# Altium schematic symbol library kmilo17pet-TI_BattMgmt.SchLib: 950 symbols (part 7 of 60)
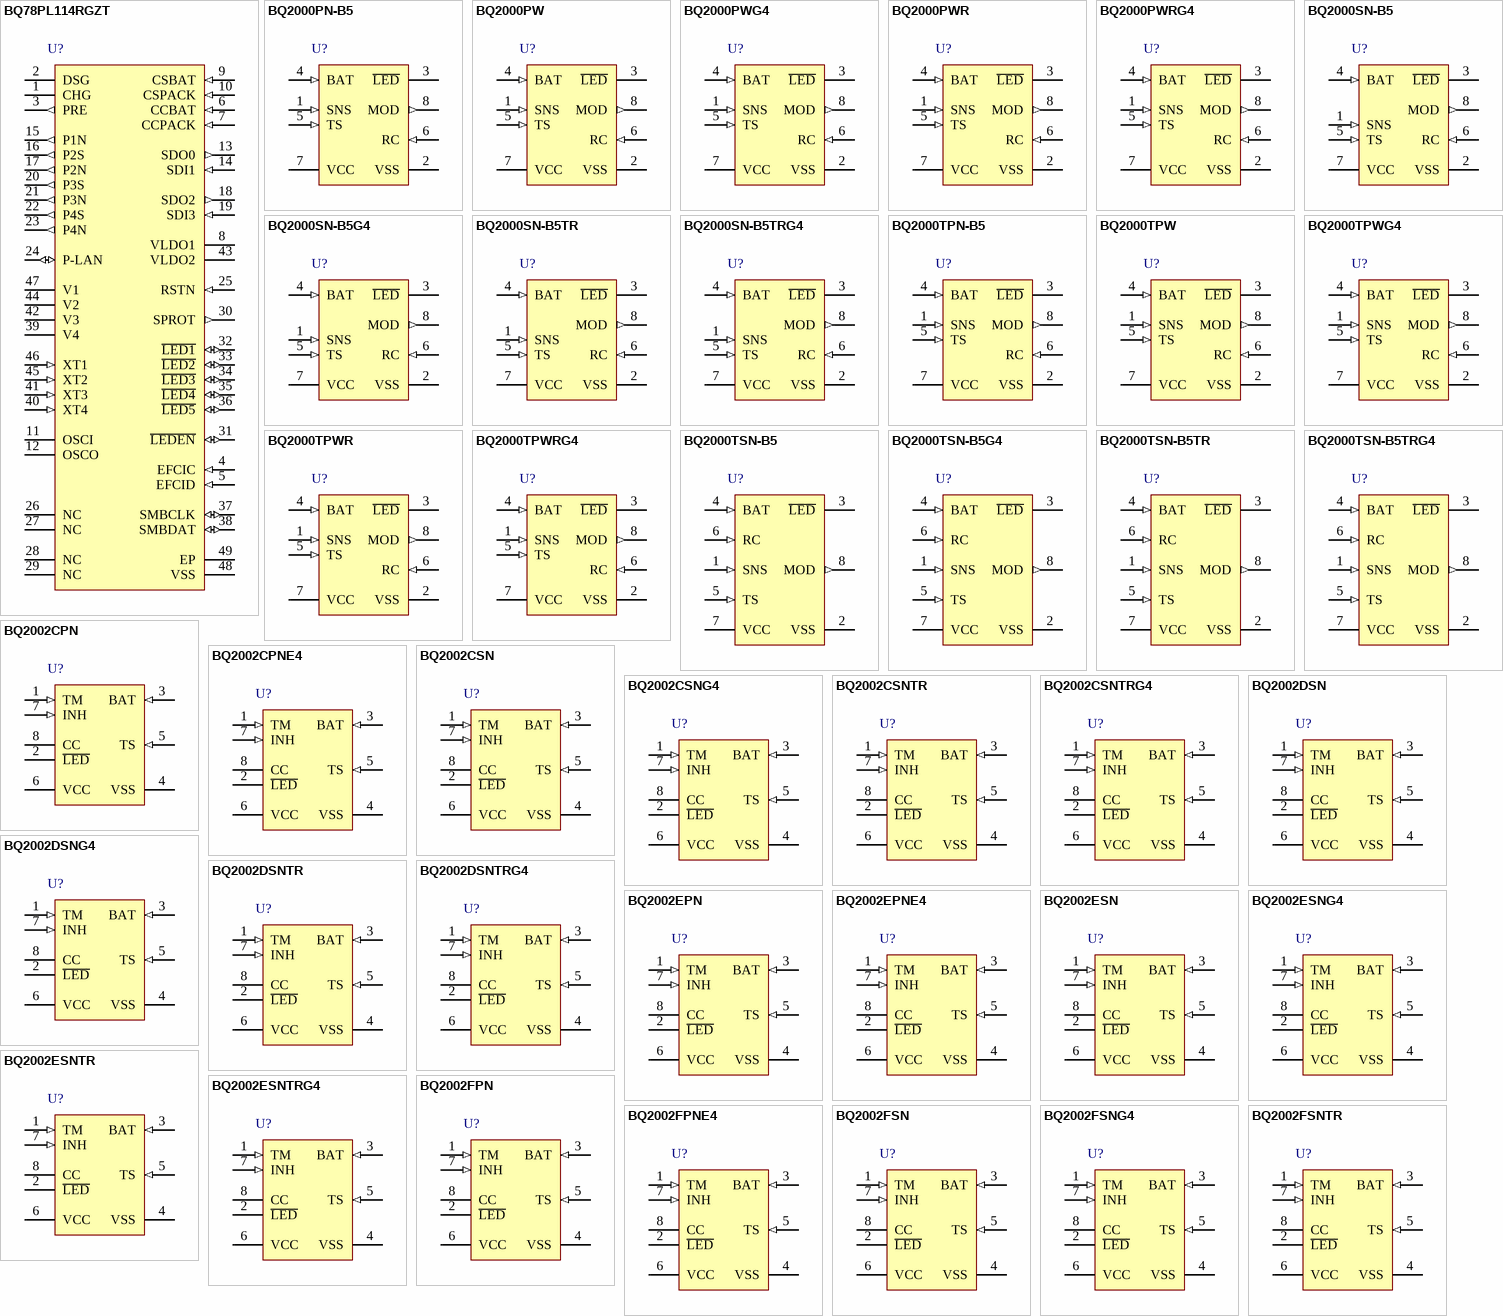
[diagram p40: symbols BQ78PL114RGZT to BQ2002FSNTR]

## BQ2002ESNG4
designator U?
NiCd / NiMH Charge Controller with Negative dV and Peak Voltage Detection Termination, 4 V, 0 to 70 degC, 8-pin SOIC (D), Green (RoHS & no Sb/Br); PartNumber: BQ2002ESNG4; Manufacturer: Texas Instruments; Lead Acid: N; NiCd: Y; SubFamily: Battery Charge Management; Vin(Min)(V): 4; DatasheetVersion: SLUS132; PackageVersion: revM, Jun-2011; PackageReference: D8; PackageDescription: 8-Pin Plastic Small Outline Integrated Circuit, 4.9 x 3.9 mm, Pitch 1.27 mm Pitch; Supplier 1: Digi-Key; Supplier Part Number 1: BQ2002ESNG4-ND; Supplier Part Number 3: 595-BQ2002ESNG4; Eco-Plan: Green (RoHS & no Sb/Br); Li-Ion: N; Li-Polymer: N; NiMH: Y; Over Voltage Protection: N; Mounting Technology: Surface Mount; Code_JEDEC: MS-012AA; ComponentLink1Description: Datasheet; ComponentLink1URL: http://www.ti.com/general/docs/lit/getliterature.tsp?genericPartNumber=BQ2002E&fileType=pdf
footprint D8_N (SOIC, 8-Leads, Body 4.9x3.9mm, Pitch 1.27mm, IPC Medium Density)
footprint D8_L (SOIC, 8-Leads, Body 4.9x3.9mm, Pitch 1.27mm, IPC High Density)
footprint D8_M (SOIC, 8-Leads, Body 4.9x3.9mm, Pitch 1.27mm, IPC Low Density)
pins: 1 TM (in) "Timer mode input. A three-level input that controls the settings for the fast charge safety timer, voltage termination mode, top-off, pulse-trickle, and voltage hold-off time.", 2 ~{LED} (hiz) "Charging output status. Open-drain output that indicates the charging status.", 3 BAT (in) "Battery input voltage. The battery voltage sense input. The input to this pin is created by a high-impedance resistor divider network connected between the positive and negative terminals of the battery.", 4 VSS (power) "System ground.", 5 TS (in) "Temperature sense input. Input for an external battery temperature monitoring thermistor.", 6 VCC (power) "Supply voltage input. 5.0V +/- 20%power input.", 7 INH (in) "Charge inhibit input. When high, INH suspends the fast charge in progress. When returned low, the IC resumes operation at the point where initially suspended.", 8 CC (hiz) "Charge control output. An open-drain output used to control the charging current to the battery. CC switching to high impedance (Z) enables charging current to flow, and low to inhibit charging current. CC is modulated to (See Datasheet)"

## BQ2002ESNTR
designator U?
NiCd / NiMH Charge Controller with Negative dV and Peak Voltage Detection Termination, 4 V, 0 to 70 degC, 8-pin SOIC (D), Green (RoHS & no Sb/Br); PartNumber: BQ2002ESNTR; Manufacturer: Texas Instruments; Lead Acid: N; NiCd: Y; SubFamily: Battery Charge Management; Vin(Min)(V): 4; DatasheetVersion: SLUS132; PackageVersion: revM, Jun-2011; PackageReference: D8; PackageDescription: 8-Pin Plastic Small Outline Integrated Circuit, 4.9 x 3.9 mm, Pitch 1.27 mm Pitch; Supplier 1: Digi-Key; Supplier Part Number 1: BQ2002ESNTR-ND; Supplier Part Number 3: 595-BQ2002ESNTR; Eco-Plan: Green (RoHS & no Sb/Br); Li-Ion: N; Li-Polymer: N; NiMH: Y; Over Voltage Protection: N; Mounting Technology: Surface Mount; Code_JEDEC: MS-012AA; ComponentLink1Description: Datasheet; ComponentLink1URL: http://www.ti.com/general/docs/lit/getliterature.tsp?genericPartNumber=BQ2002E&fileType=pdf
footprint D8_N (SOIC, 8-Leads, Body 4.9x3.9mm, Pitch 1.27mm, IPC Medium Density)
footprint D8_L (SOIC, 8-Leads, Body 4.9x3.9mm, Pitch 1.27mm, IPC High Density)
footprint D8_M (SOIC, 8-Leads, Body 4.9x3.9mm, Pitch 1.27mm, IPC Low Density)
pins: 1 TM (in) "Timer mode input. A three-level input that controls the settings for the fast charge safety timer, voltage termination mode, top-off, pulse-trickle, and voltage hold-off time.", 2 ~{LED} (hiz) "Charging output status. Open-drain output that indicates the charging status.", 3 BAT (in) "Battery input voltage. The battery voltage sense input. The input to this pin is created by a high-impedance resistor divider network connected between the positive and negative terminals of the battery.", 4 VSS (power) "System ground.", 5 TS (in) "Temperature sense input. Input for an external battery temperature monitoring thermistor.", 6 VCC (power) "Supply voltage input. 5.0V +/- 20%power input.", 7 INH (in) "Charge inhibit input. When high, INH suspends the fast charge in progress. When returned low, the IC resumes operation at the point where initially suspended.", 8 CC (hiz) "Charge control output. An open-drain output used to control the charging current to the battery. CC switching to high impedance (Z) enables charging current to flow, and low to inhibit charging current. CC is modulated to (See Datasheet)"

## BQ2002ESNTRG4
designator U?
NiCd / NiMH Charge Controller with Negative dV and Peak Voltage Detection Termination, 4 V, 0 to 70 degC, 8-pin SOIC (D), Green (RoHS & no Sb/Br); PartNumber: BQ2002ESNTRG4; Manufacturer: Texas Instruments; Lead Acid: N; NiCd: Y; SubFamily: Battery Charge Management; Vin(Min)(V): 4; DatasheetVersion: SLUS132; PackageVersion: revM, Jun-2011; PackageReference: D8; PackageDescription: 8-Pin Plastic Small Outline Integrated Circuit, 4.9 x 3.9 mm, Pitch 1.27 mm Pitch; Supplier 1: Digi-Key; Supplier Part Number 1: BQ2002ESNTRG4-ND; Supplier Part Number 3: 595-BQ2002ESNTRG4; Eco-Plan: Green (RoHS & no Sb/Br); Li-Ion: N; Li-Polymer: N; NiMH: Y; Over Voltage Protection: N; Mounting Technology: Surface Mount; Code_JEDEC: MS-012AA; ComponentLink1Description: Datasheet; ComponentLink1URL: http://www.ti.com/general/docs/lit/getliterature.tsp?genericPartNumber=BQ2002E&fileType=pdf
footprint D8_N (SOIC, 8-Leads, Body 4.9x3.9mm, Pitch 1.27mm, IPC Medium Density)
footprint D8_L (SOIC, 8-Leads, Body 4.9x3.9mm, Pitch 1.27mm, IPC High Density)
footprint D8_M (SOIC, 8-Leads, Body 4.9x3.9mm, Pitch 1.27mm, IPC Low Density)
pins: 1 TM (in) "Timer mode input. A three-level input that controls the settings for the fast charge safety timer, voltage termination mode, top-off, pulse-trickle, and voltage hold-off time.", 2 ~{LED} (hiz) "Charging output status. Open-drain output that indicates the charging status.", 3 BAT (in) "Battery input voltage. The battery voltage sense input. The input to this pin is created by a high-impedance resistor divider network connected between the positive and negative terminals of the battery.", 4 VSS (power) "System ground.", 5 TS (in) "Temperature sense input. Input for an external battery temperature monitoring thermistor.", 6 VCC (power) "Supply voltage input. 5.0V +/- 20%power input.", 7 INH (in) "Charge inhibit input. When high, INH suspends the fast charge in progress. When returned low, the IC resumes operation at the point where initially suspended.", 8 CC (hiz) "Charge control output. An open-drain output used to control the charging current to the battery. CC switching to high impedance (Z) enables charging current to flow, and low to inhibit charging current. CC is modulated to (See Datasheet)"

## BQ2002FPN
designator U?
NiCd / NiMH Charge Controller with Negative dV and Peak Voltage Detection Termination, 4 V, 0 to 70 degC, 8-pin PDIP (P), Pb-Free (RoHS); PartNumber: BQ2002FPN; Manufacturer: Texas Instruments; Lead Acid: N; NiCd: Y; SubFamily: Battery Charge Management; Vin(Min)(V): 4; DatasheetVersion: SLUS131; PackageVersion: revE, Apr-2010; PackageReference: P8; PackageDescription: 8-Pin Plastic Dual-In-Line Package, Row Spacing 7.62 mm, Pitch 2.54 mm; Supplier 1: Digi-Key; Supplier Part Number 1: 296-9322-5-ND; Supplier Part Number 3: 595-BQ2002FPN; Eco-Plan: Pb-Free (RoHS); Li-Ion: N; Li-Polymer: N; NiMH: Y; Over Voltage Protection: N; Mounting Technology: Through Hole; Code_JEDEC: MS-001-BA; ComponentLink1Description: Datasheet; ComponentLink1URL: http://www.ti.com/general/docs/lit/getliterature.tsp?genericPartNumber=BQ2002F&fileType=pdf
footprint P8 (DIP, 8-Leads, Row Spacing 7.62mm, Pitch 2.54mm, Body 9.6x6.4mm)
pins: 1 TM (in) "Timer mode input. A three-level input that controls the settings for the fast charge safety timer, voltage termination mode, top-off, pulse-trickle, and voltage hold-off time.", 2 ~{LED} (hiz) "Charging output status. Open-drain output that indicates the charging status.", 3 BAT (in) "Battery input voltage. The battery voltage sense input. The input to this pin is created by a high-impedance resistor divider network connected between the positive and negative terminals of the battery.", 4 VSS (power) "System ground.", 5 TS (in) "Temperature sense input. Input for an external battery temperature monitoring thermistor.", 6 VCC (power) "Supply voltage input. 5.0V +/-20%power input.", 7 INH (in) "Charge inhibit input. When high, INH suspends the fast charge in progress. When returned low, the IC resumes operation at the point where initially suspended.", 8 CC (hiz) "Charge control output. An open-drain output used to control the charging current to the battery. CC switching to high impedance (Z) enables charging current to flow, and low to inhibit charging current. CC is modulated to (See Datasheet)"

## BQ2002FPNE4
designator U?
NiCd / NiMH Charge Controller with Negative dV and Peak Voltage Detection Termination, 4 V, 0 to 70 degC, 8-pin PDIP (P), Pb-Free (RoHS); PartNumber: BQ2002FPNE4; Manufacturer: Texas Instruments; Lead Acid: N; NiCd: Y; SubFamily: Battery Charge Management; Vin(Min)(V): 4; DatasheetVersion: SLUS131; PackageVersion: revE, Apr-2010; PackageReference: P8; PackageDescription: 8-Pin Plastic Dual-In-Line Package, Row Spacing 7.62 mm, Pitch 2.54 mm; Supplier 1: Digi-Key; Supplier Part Number 1: BQ2002FPNE4-ND; Supplier Part Number 3: 595-BQ2002FPNE4; Eco-Plan: Pb-Free (RoHS); Li-Ion: N; Li-Polymer: N; NiMH: Y; Over Voltage Protection: N; Mounting Technology: Through Hole; Code_JEDEC: MS-001-BA; ComponentLink1Description: Datasheet; ComponentLink1URL: http://www.ti.com/general/docs/lit/getliterature.tsp?genericPartNumber=BQ2002F&fileType=pdf
footprint P8 (DIP, 8-Leads, Row Spacing 7.62mm, Pitch 2.54mm, Body 9.6x6.4mm)
pins: 1 TM (in) "Timer mode input. A three-level input that controls the settings for the fast charge safety timer, voltage termination mode, top-off, pulse-trickle, and voltage hold-off time.", 2 ~{LED} (hiz) "Charging output status. Open-drain output that indicates the charging status.", 3 BAT (in) "Battery input voltage. The battery voltage sense input. The input to this pin is created by a high-impedance resistor divider network connected between the positive and negative terminals of the battery.", 4 VSS (power) "System ground.", 5 TS (in) "Temperature sense input. Input for an external battery temperature monitoring thermistor.", 6 VCC (power) "Supply voltage input. 5.0V +/-20%power input.", 7 INH (in) "Charge inhibit input. When high, INH suspends the fast charge in progress. When returned low, the IC resumes operation at the point where initially suspended.", 8 CC (hiz) "Charge control output. An open-drain output used to control the charging current to the battery. CC switching to high impedance (Z) enables charging current to flow, and low to inhibit charging current. CC is modulated to (See Datasheet)"

## BQ2002FSN
designator U?
NiCd / NiMH Charge Controller with Negative dV and Peak Voltage Detection Termination, 4 V, 0 to 70 degC, 8-pin SOIC (D), Green (RoHS & no Sb/Br); PartNumber: BQ2002FSN; Manufacturer: Texas Instruments; Lead Acid: N; NiCd: Y; SubFamily: Battery Charge Management; Vin(Min)(V): 4; DatasheetVersion: SLUS131; PackageVersion: revM, Jun-2011; PackageReference: D8; PackageDescription: 8-Pin Plastic Small Outline Integrated Circuit, 4.9 x 3.9 mm, Pitch 1.27 mm Pitch; Supplier 1: Digi-Key; Supplier Part Number 1: 296-9323-5-ND; Supplier Part Number 3: 74C7519; Eco-Plan: Green (RoHS & no Sb/Br); Li-Ion: N; Li-Polymer: N; NiMH: Y; Over Voltage Protection: N; Mounting Technology: Surface Mount; Code_JEDEC: MS-012AA; ComponentLink1Description: Datasheet; ComponentLink1URL: http://www.ti.com/general/docs/lit/getliterature.tsp?genericPartNumber=BQ2002F&fileType=pdf
footprint D8_N (SOIC, 8-Leads, Body 4.9x3.9mm, Pitch 1.27mm, IPC Medium Density)
footprint D8_L (SOIC, 8-Leads, Body 4.9x3.9mm, Pitch 1.27mm, IPC High Density)
footprint D8_M (SOIC, 8-Leads, Body 4.9x3.9mm, Pitch 1.27mm, IPC Low Density)
pins: 1 TM (in) "Timer mode input. A three-level input that controls the settings for the fast charge safety timer, voltage termination mode, top-off, pulse-trickle, and voltage hold-off time.", 2 ~{LED} (hiz) "Charging output status. Open-drain output that indicates the charging status.", 3 BAT (in) "Battery input voltage. The battery voltage sense input. The input to this pin is created by a high-impedance resistor divider network connected between the positive and negative terminals of the battery.", 4 VSS (power) "System ground.", 5 TS (in) "Temperature sense input. Input for an external battery temperature monitoring thermistor.", 6 VCC (power) "Supply voltage input. 5.0V +/- 20%power input.", 7 INH (in) "Charge inhibit input. When high, INH suspends the fast charge in progress. When returned low, the IC resumes operation at the point where initially suspended.", 8 CC (hiz) "Charge control output. An open-drain output used to control the charging current to the battery. CC switching to high impedance (Z) enables charging current to flow, and low to inhibit charging current. CC is modulated to (See Datasheet)"

## BQ2002FSNG4
designator U?
NiCd / NiMH Charge Controller with Negative dV and Peak Voltage Detection Termination, 4 V, 0 to 70 degC, 8-pin SOIC (D), Green (RoHS & no Sb/Br); PartNumber: BQ2002FSNG4; Manufacturer: Texas Instruments; Lead Acid: N; NiCd: Y; SubFamily: Battery Charge Management; Vin(Min)(V): 4; DatasheetVersion: SLUS131; PackageVersion: revM, Jun-2011; PackageReference: D8; PackageDescription: 8-Pin Plastic Small Outline Integrated Circuit, 4.9 x 3.9 mm, Pitch 1.27 mm Pitch; Supplier 1: Digi-Key; Supplier Part Number 1: BQ2002FSNG4-ND; Supplier Part Number 3: 595-BQ2002FSNG4; Eco-Plan: Green (RoHS & no Sb/Br); Li-Ion: N; Li-Polymer: N; NiMH: Y; Over Voltage Protection: N; Mounting Technology: Surface Mount; Code_JEDEC: MS-012AA; ComponentLink1Description: Datasheet; ComponentLink1URL: http://www.ti.com/general/docs/lit/getliterature.tsp?genericPartNumber=BQ2002F&fileType=pdf
footprint D8_N (SOIC, 8-Leads, Body 4.9x3.9mm, Pitch 1.27mm, IPC Medium Density)
footprint D8_L (SOIC, 8-Leads, Body 4.9x3.9mm, Pitch 1.27mm, IPC High Density)
footprint D8_M (SOIC, 8-Leads, Body 4.9x3.9mm, Pitch 1.27mm, IPC Low Density)
pins: 1 TM (in) "Timer mode input. A three-level input that controls the settings for the fast charge safety timer, voltage termination mode, top-off, pulse-trickle, and voltage hold-off time.", 2 ~{LED} (hiz) "Charging output status. Open-drain output that indicates the charging status.", 3 BAT (in) "Battery input voltage. The battery voltage sense input. The input to this pin is created by a high-impedance resistor divider network connected between the positive and negative terminals of the battery.", 4 VSS (power) "System ground.", 5 TS (in) "Temperature sense input. Input for an external battery temperature monitoring thermistor.", 6 VCC (power) "Supply voltage input. 5.0V +/- 20%power input.", 7 INH (in) "Charge inhibit input. When high, INH suspends the fast charge in progress. When returned low, the IC resumes operation at the point where initially suspended.", 8 CC (hiz) "Charge control output. An open-drain output used to control the charging current to the battery. CC switching to high impedance (Z) enables charging current to flow, and low to inhibit charging current. CC is modulated to (See Datasheet)"

## BQ2002FSNTR
designator U?
NiCd / NiMH Charge Controller with Negative dV and Peak Voltage Detection Termination, 4 V, 0 to 70 degC, 8-pin SOIC (D), Green (RoHS & no Sb/Br); PartNumber: BQ2002FSNTR; Manufacturer: Texas Instruments; Lead Acid: N; NiCd: Y; SubFamily: Battery Charge Management; Vin(Min)(V): 4; DatasheetVersion: SLUS131; PackageVersion: revM, Jun-2011; PackageReference: D8; PackageDescription: 8-Pin Plastic Small Outline Integrated Circuit, 4.9 x 3.9 mm, Pitch 1.27 mm Pitch; Supplier 1: Digi-Key; Supplier Part Number 1: BQ2002FSNTR-ND; Supplier Part Number 3: 595-BQ2002FSNTR; Eco-Plan: Green (RoHS & no Sb/Br); Li-Ion: N; Li-Polymer: N; NiMH: Y; Over Voltage Protection: N; Mounting Technology: Surface Mount; Code_JEDEC: MS-012AA; ComponentLink1Description: Datasheet; ComponentLink1URL: http://www.ti.com/general/docs/lit/getliterature.tsp?genericPartNumber=BQ2002F&fileType=pdf
footprint D8_N (SOIC, 8-Leads, Body 4.9x3.9mm, Pitch 1.27mm, IPC Medium Density)
footprint D8_L (SOIC, 8-Leads, Body 4.9x3.9mm, Pitch 1.27mm, IPC High Density)
footprint D8_M (SOIC, 8-Leads, Body 4.9x3.9mm, Pitch 1.27mm, IPC Low Density)
pins: 1 TM (in) "Timer mode input. A three-level input that controls the settings for the fast charge safety timer, voltage termination mode, top-off, pulse-trickle, and voltage hold-off time.", 2 ~{LED} (hiz) "Charging output status. Open-drain output that indicates the charging status.", 3 BAT (in) "Battery input voltage. The battery voltage sense input. The input to this pin is created by a high-impedance resistor divider network connected between the positive and negative terminals of the battery.", 4 VSS (power) "System ground.", 5 TS (in) "Temperature sense input. Input for an external battery temperature monitoring thermistor.", 6 VCC (power) "Supply voltage input. 5.0V +/- 20%power input.", 7 INH (in) "Charge inhibit input. When high, INH suspends the fast charge in progress. When returned low, the IC resumes operation at the point where initially suspended.", 8 CC (hiz) "Charge control output. An open-drain output used to control the charging current to the battery. CC switching to high impedance (Z) enables charging current to flow, and low to inhibit charging current. CC is modulated to (See Datasheet)"

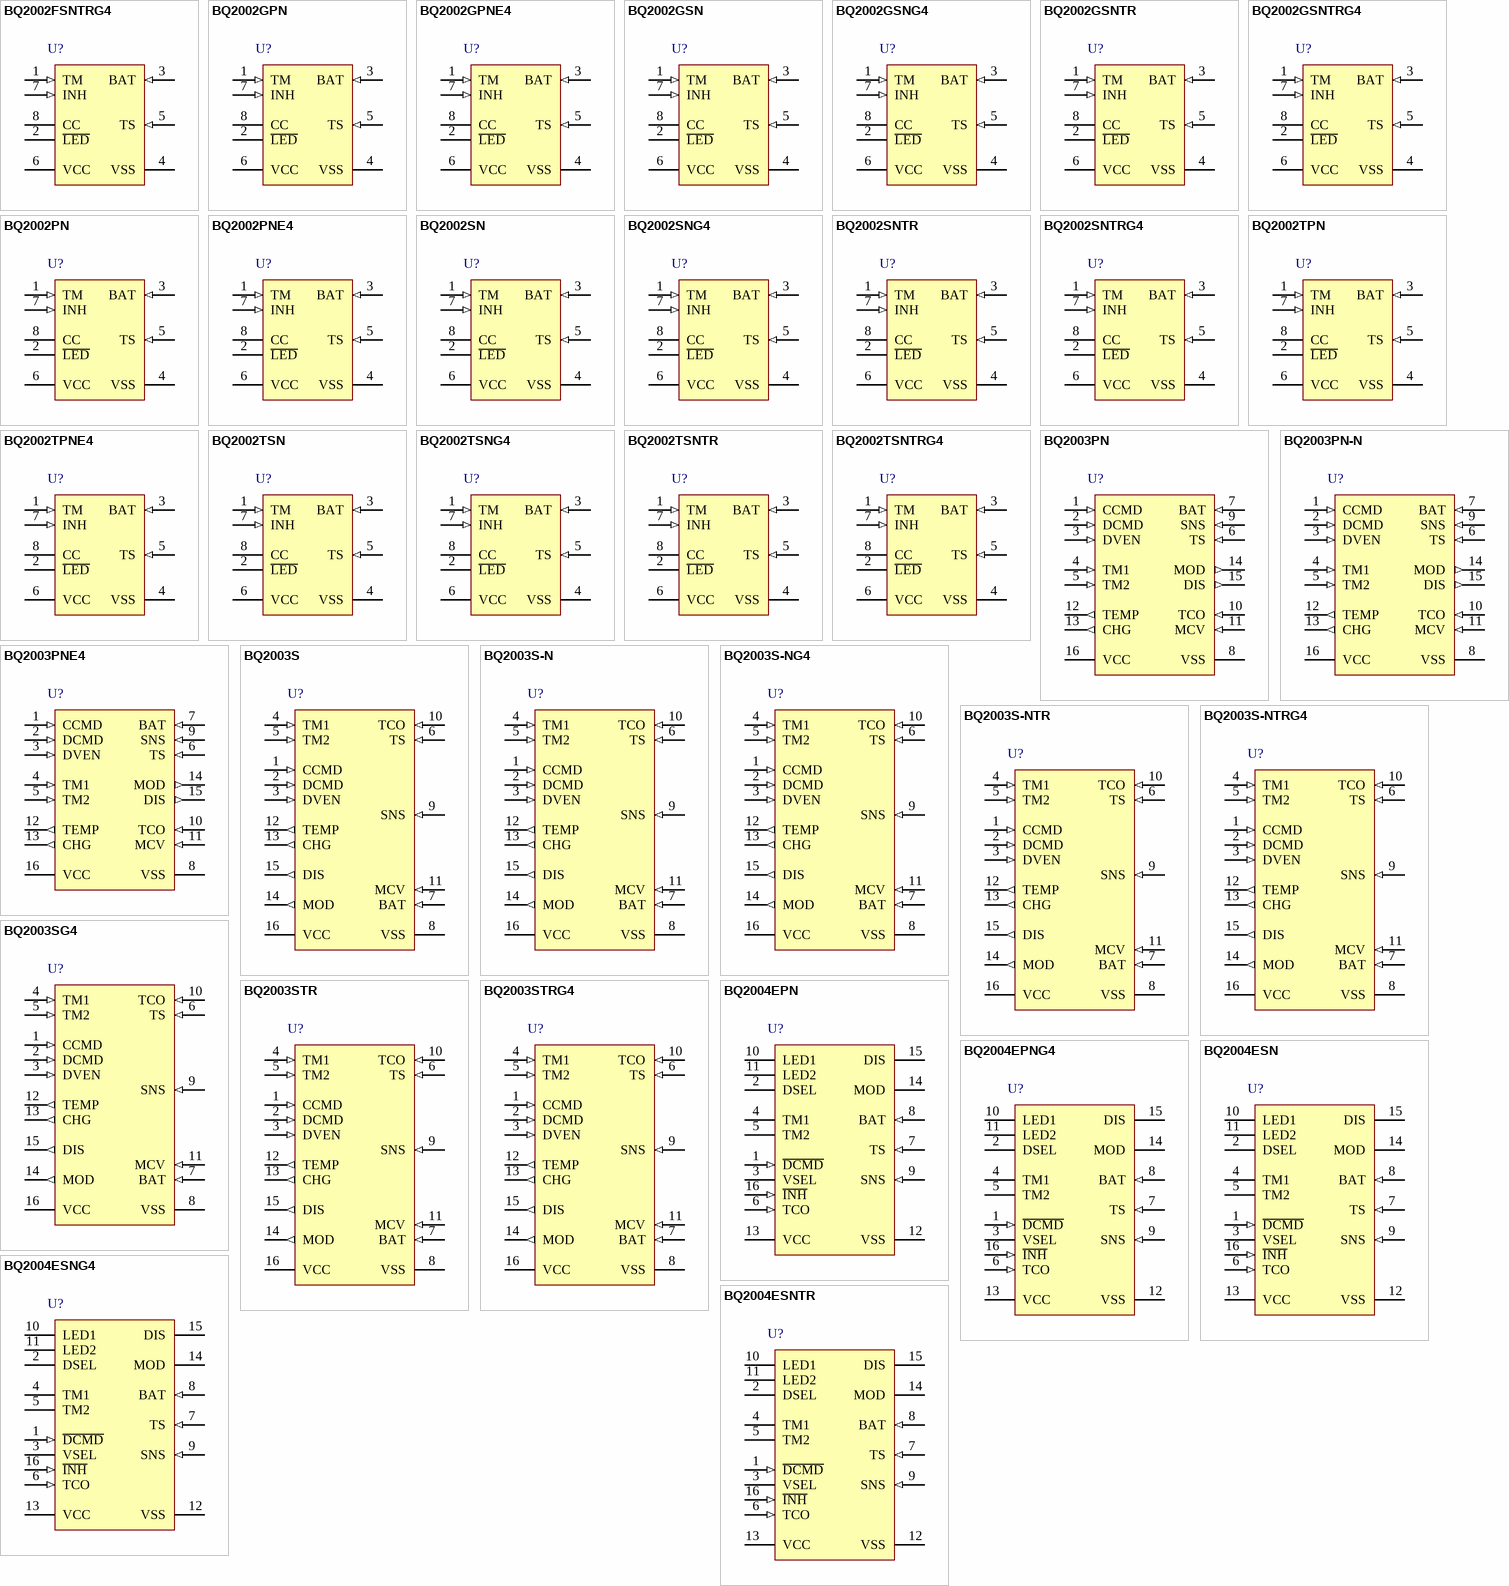
[diagram p4: symbols BQ2002FSNTRG4 to BQ2004ESNTR]

## BQ2002FSNTRG4
designator U?
NiCd / NiMH Charge Controller with Negative dV and Peak Voltage Detection Termination, 4 V, 0 to 70 degC, 8-pin SOIC (D), Green (RoHS & no Sb/Br); PartNumber: BQ2002FSNTRG4; Manufacturer: Texas Instruments; Lead Acid: N; NiCd: Y; SubFamily: Battery Charge Management; Vin(Min)(V): 4; DatasheetVersion: SLUS131; PackageVersion: revM, Jun-2011; PackageReference: D8; PackageDescription: 8-Pin Plastic Small Outline Integrated Circuit, 4.9 x 3.9 mm, Pitch 1.27 mm Pitch; Supplier 1: Digi-Key; Supplier Part Number 1: BQ2002FSNTRG4-ND; Supplier Part Number 3: 595-BQ2002FSNTRG4; Eco-Plan: Green (RoHS & no Sb/Br); Li-Ion: N; Li-Polymer: N; NiMH: Y; Over Voltage Protection: N; Mounting Technology: Surface Mount; Code_JEDEC: MS-012AA; ComponentLink1Description: Datasheet; ComponentLink1URL: http://www.ti.com/general/docs/lit/getliterature.tsp?genericPartNumber=BQ2002F&fileType=pdf
footprint D8_N (SOIC, 8-Leads, Body 4.9x3.9mm, Pitch 1.27mm, IPC Medium Density)
footprint D8_L (SOIC, 8-Leads, Body 4.9x3.9mm, Pitch 1.27mm, IPC High Density)
footprint D8_M (SOIC, 8-Leads, Body 4.9x3.9mm, Pitch 1.27mm, IPC Low Density)
pins: 1 TM (in) "Timer mode input. A three-level input that controls the settings for the fast charge safety timer, voltage termination mode, top-off, pulse-trickle, and voltage hold-off time.", 2 ~{LED} (hiz) "Charging output status. Open-drain output that indicates the charging status.", 3 BAT (in) "Battery input voltage. The battery voltage sense input. The input to this pin is created by a high-impedance resistor divider network connected between the positive and negative terminals of the battery.", 4 VSS (power) "System ground.", 5 TS (in) "Temperature sense input. Input for an external battery temperature monitoring thermistor.", 6 VCC (power) "Supply voltage input. 5.0V +/- 20%power input.", 7 INH (in) "Charge inhibit input. When high, INH suspends the fast charge in progress. When returned low, the IC resumes operation at the point where initially suspended.", 8 CC (hiz) "Charge control output. An open-drain output used to control the charging current to the battery. CC switching to high impedance (Z) enables charging current to flow, and low to inhibit charging current. CC is modulated to (See Datasheet)"

## BQ2002GPN
designator U?
NiCd / NiMH Charge Controller with Negative dV and Peak Voltage Detection Termination, 4 V, 0 to 70 degC, 8-pin PDIP (P), Pb-Free (RoHS); PartNumber: BQ2002GPN; Manufacturer: Texas Instruments; Lead Acid: N; NiCd: Y; SubFamily: Battery Charge Management; Vin(Min)(V): 4; DatasheetVersion: SLUS132; PackageVersion: revE, Apr-2010; PackageReference: P8; PackageDescription: 8-Pin Plastic Dual-In-Line Package, Row Spacing 7.62 mm, Pitch 2.54 mm; Supplier 1: Digi-Key; Supplier Part Number 1: 296-9324-5-ND; Supplier Part Number 3: 595-BQ2002GPN; Eco-Plan: Pb-Free (RoHS); Li-Ion: N; Li-Polymer: N; NiMH: Y; Over Voltage Protection: N; Mounting Technology: Through Hole; Code_JEDEC: MS-001-BA; ComponentLink1Description: Datasheet; ComponentLink1URL: http://www.ti.com/general/docs/lit/getliterature.tsp?genericPartNumber=BQ2002G&fileType=pdf
footprint P8 (DIP, 8-Leads, Row Spacing 7.62mm, Pitch 2.54mm, Body 9.6x6.4mm)
pins: 1 TM (in) "Timer mode input. A three-level input that controls the settings for the fast charge safety timer, voltage termination mode, top-off, pulse-trickle, and voltage hold-off time.", 2 ~{LED} (hiz) "Charging output status. Open-drain output that indicates the charging status.", 3 BAT (in) "Battery input voltage. The battery voltage sense input. The input to this pin is created by a high-impedance resistor divider network connected between the positive and negative terminals of the battery.", 4 VSS (power) "System ground.", 5 TS (in) "Temperature sense input. Input for an external battery temperature monitoring thermistor.", 6 VCC (power) "Supply voltage input. 5.0V +/-20%power input.", 7 INH (in) "Charge inhibit input. When high, INH suspends the fast charge in progress. When returned low, the IC resumes operation at the point where initially suspended.", 8 CC (hiz) "Charge control output. An open-drain output used to control the charging current to the battery. CC switching to high impedance (Z) enables charging current to flow, and low to inhibit charging current. CC is modulated to (See Datasheet)"

## BQ2002GPNE4
designator U?
NiCd / NiMH Charge Controller with Negative dV and Peak Voltage Detection Termination, 4 V, 0 to 70 degC, 8-pin PDIP (P), Pb-Free (RoHS); PartNumber: BQ2002GPNE4; Manufacturer: Texas Instruments; Lead Acid: N; NiCd: Y; SubFamily: Battery Charge Management; Vin(Min)(V): 4; DatasheetVersion: SLUS132; PackageVersion: revE, Apr-2010; PackageReference: P8; PackageDescription: 8-Pin Plastic Dual-In-Line Package, Row Spacing 7.62 mm, Pitch 2.54 mm; Supplier 1: Digi-Key; Supplier Part Number 1: BQ2002GPNE4-ND; Supplier Part Number 3: 595-BQ2002GPNE4; Eco-Plan: Pb-Free (RoHS); Li-Ion: N; Li-Polymer: N; NiMH: Y; Over Voltage Protection: N; Mounting Technology: Through Hole; Code_JEDEC: MS-001-BA; ComponentLink1Description: Datasheet; ComponentLink1URL: http://www.ti.com/general/docs/lit/getliterature.tsp?genericPartNumber=BQ2002G&fileType=pdf
footprint P8 (DIP, 8-Leads, Row Spacing 7.62mm, Pitch 2.54mm, Body 9.6x6.4mm)
pins: 1 TM (in) "Timer mode input. A three-level input that controls the settings for the fast charge safety timer, voltage termination mode, top-off, pulse-trickle, and voltage hold-off time.", 2 ~{LED} (hiz) "Charging output status. Open-drain output that indicates the charging status.", 3 BAT (in) "Battery input voltage. The battery voltage sense input. The input to this pin is created by a high-impedance resistor divider network connected between the positive and negative terminals of the battery.", 4 VSS (power) "System ground.", 5 TS (in) "Temperature sense input. Input for an external battery temperature monitoring thermistor.", 6 VCC (power) "Supply voltage input. 5.0V +/-20%power input.", 7 INH (in) "Charge inhibit input. When high, INH suspends the fast charge in progress. When returned low, the IC resumes operation at the point where initially suspended.", 8 CC (hiz) "Charge control output. An open-drain output used to control the charging current to the battery. CC switching to high impedance (Z) enables charging current to flow, and low to inhibit charging current. CC is modulated to (See Datasheet)"

## BQ2002GSN
designator U?
NiCd / NiMH Charge Controller with Negative dV and Peak Voltage Detection Termination, 4 V, 0 to 70 degC, 8-pin SOIC (D), Green (RoHS & no Sb/Br); PartNumber: BQ2002GSN; Manufacturer: Texas Instruments; Lead Acid: N; NiCd: Y; SubFamily: Battery Charge Management; Vin(Min)(V): 4; DatasheetVersion: SLUS132; PackageVersion: revM, Jun-2011; PackageReference: D8; PackageDescription: 8-Pin Plastic Small Outline Integrated Circuit, 4.9 x 3.9 mm, Pitch 1.27 mm Pitch; Supplier 1: Digi-Key; Supplier Part Number 1: 296-9325-5-ND; Supplier Part Number 3: 595-BQ2002GSN; Eco-Plan: Green (RoHS & no Sb/Br); Li-Ion: N; Li-Polymer: N; NiMH: Y; Over Voltage Protection: N; Mounting Technology: Surface Mount; Code_JEDEC: MS-012AA; ComponentLink1Description: Datasheet; ComponentLink1URL: http://www.ti.com/general/docs/lit/getliterature.tsp?genericPartNumber=BQ2002G&fileType=pdf
footprint D8_N (SOIC, 8-Leads, Body 4.9x3.9mm, Pitch 1.27mm, IPC Medium Density)
footprint D8_L (SOIC, 8-Leads, Body 4.9x3.9mm, Pitch 1.27mm, IPC High Density)
footprint D8_M (SOIC, 8-Leads, Body 4.9x3.9mm, Pitch 1.27mm, IPC Low Density)
pins: 1 TM (in) "Timer mode input. A three-level input that controls the settings for the fast charge safety timer, voltage termination mode, top-off, pulse-trickle, and voltage hold-off time.", 2 ~{LED} (hiz) "Charging output status. Open-drain output that indicates the charging status.", 3 BAT (in) "Battery input voltage. The battery voltage sense input. The input to this pin is created by a high-impedance resistor divider network connected between the positive and negative terminals of the battery.", 4 VSS (power) "System ground.", 5 TS (in) "Temperature sense input. Input for an external battery temperature monitoring thermistor.", 6 VCC (power) "Supply voltage input. 5.0V +/-20%power input.", 7 INH (in) "Charge inhibit input. When high, INH suspends the fast charge in progress. When returned low, the IC resumes operation at the point where initially suspended.", 8 CC (hiz) "Charge control output. An open-drain output used to control the charging current to the battery. CC switching to high impedance (Z) enables charging current to flow, and low to inhibit charging current. CC is modulated to (See Datasheet)"

## BQ2002GSNG4
designator U?
NiCd / NiMH Charge Controller with Negative dV and Peak Voltage Detection Termination, 4 V, 0 to 70 degC, 8-pin SOIC (D), Green (RoHS & no Sb/Br); PartNumber: BQ2002GSNG4; Manufacturer: Texas Instruments; Lead Acid: N; NiCd: Y; SubFamily: Battery Charge Management; Vin(Min)(V): 4; DatasheetVersion: SLUS132; PackageVersion: revM, Jun-2011; PackageReference: D8; PackageDescription: 8-Pin Plastic Small Outline Integrated Circuit, 4.9 x 3.9 mm, Pitch 1.27 mm Pitch; Supplier 1: Digi-Key; Supplier Part Number 1: BQ2002GSNG4-ND; Supplier Part Number 3: 595-BQ2002GSNG4; Eco-Plan: Green (RoHS & no Sb/Br); Li-Ion: N; Li-Polymer: N; NiMH: Y; Over Voltage Protection: N; Mounting Technology: Surface Mount; Code_JEDEC: MS-012AA; ComponentLink1Description: Datasheet; ComponentLink1URL: http://www.ti.com/general/docs/lit/getliterature.tsp?genericPartNumber=BQ2002G&fileType=pdf
footprint D8_N (SOIC, 8-Leads, Body 4.9x3.9mm, Pitch 1.27mm, IPC Medium Density)
footprint D8_L (SOIC, 8-Leads, Body 4.9x3.9mm, Pitch 1.27mm, IPC High Density)
footprint D8_M (SOIC, 8-Leads, Body 4.9x3.9mm, Pitch 1.27mm, IPC Low Density)
pins: 1 TM (in) "Timer mode input. A three-level input that controls the settings for the fast charge safety timer, voltage termination mode, top-off, pulse-trickle, and voltage hold-off time.", 2 ~{LED} (hiz) "Charging output status. Open-drain output that indicates the charging status.", 3 BAT (in) "Battery input voltage. The battery voltage sense input. The input to this pin is created by a high-impedance resistor divider network connected between the positive and negative terminals of the battery.", 4 VSS (power) "System ground.", 5 TS (in) "Temperature sense input. Input for an external battery temperature monitoring thermistor.", 6 VCC (power) "Supply voltage input. 5.0V +/-20%power input.", 7 INH (in) "Charge inhibit input. When high, INH suspends the fast charge in progress. When returned low, the IC resumes operation at the point where initially suspended.", 8 CC (hiz) "Charge control output. An open-drain output used to control the charging current to the battery. CC switching to high impedance (Z) enables charging current to flow, and low to inhibit charging current. CC is modulated to (See Datasheet)"

## BQ2002GSNTR
designator U?
NiCd / NiMH Charge Controller with Negative dV and Peak Voltage Detection Termination, 4 V, 8-pin SOIC (D), Green (RoHS & no Sb/Br); PartNumber: BQ2002GSNTR; Manufacturer: Texas Instruments; Lead Acid: N; NiCd: Y; SubFamily: Battery Charge Management; Vin(Min)(V): 4; DatasheetVersion: SLUS132; PackageVersion: revM, Jun-2011; PackageReference: D8; PackageDescription: 8-Pin Plastic Small Outline Integrated Circuit, 4.9 x 3.9 mm, Pitch 1.27 mm Pitch; Supplier 1: Digi-Key; Supplier Part Number 1: BQ2002GSNTR-ND; Eco-Plan: Green (RoHS & no Sb/Br); Li-Ion: N; Li-Polymer: N; NiMH: Y; Over Voltage Protection: N; Mounting Technology: Surface Mount; Code_JEDEC: MS-012AA; ComponentLink1Description: Datasheet; ComponentLink1URL: http://www.ti.com/general/docs/lit/getliterature.tsp?genericPartNumber=BQ2002G&fileType=pdf
footprint D8_N (SOIC, 8-Leads, Body 4.9x3.9mm, Pitch 1.27mm, IPC Medium Density)
footprint D8_L (SOIC, 8-Leads, Body 4.9x3.9mm, Pitch 1.27mm, IPC High Density)
footprint D8_M (SOIC, 8-Leads, Body 4.9x3.9mm, Pitch 1.27mm, IPC Low Density)
pins: 1 TM (in) "Timer mode input. A three-level input that controls the settings for the fast charge safety timer, voltage termination mode, top-off, pulse-trickle, and voltage hold-off time.", 2 ~{LED} (hiz) "Charging output status. Open-drain output that indicates the charging status.", 3 BAT (in) "Battery input voltage. The battery voltage sense input. The input to this pin is created by a high-impedance resistor divider network connected between the positive and negative terminals of the battery.", 4 VSS (power) "System ground.", 5 TS (in) "Temperature sense input. Input for an external battery temperature monitoring thermistor.", 6 VCC (power) "Supply voltage input. 5.0V +/-20%power input.", 7 INH (in) "Charge inhibit input. When high, INH suspends the fast charge in progress. When returned low, the IC resumes operation at the point where initially suspended.", 8 CC (hiz) "Charge control output. An open-drain output used to control the charging current to the battery. CC switching to high impedance (Z) enables charging current to flow, and low to inhibit charging current. CC is modulated to (See Datasheet)"

## BQ2002GSNTRG4
designator U?
NiCd / NiMH Charge Controller with Negative dV and Peak Voltage Detection Termination, 4 V, 8-pin SOIC (D), Green (RoHS & no Sb/Br); PartNumber: BQ2002GSNTRG4; Manufacturer: Texas Instruments; Lead Acid: N; NiCd: Y; SubFamily: Battery Charge Management; Vin(Min)(V): 4; DatasheetVersion: SLUS132; PackageVersion: revM, Jun-2011; PackageReference: D8; PackageDescription: 8-Pin Plastic Small Outline Integrated Circuit, 4.9 x 3.9 mm, Pitch 1.27 mm Pitch; Supplier 1: Digi-Key; Supplier Part Number 1: BQ2002GSNTRG4-ND; Eco-Plan: Green (RoHS & no Sb/Br); Li-Ion: N; Li-Polymer: N; NiMH: Y; Over Voltage Protection: N; Mounting Technology: Surface Mount; Code_JEDEC: MS-012AA; ComponentLink1Description: Datasheet; ComponentLink1URL: http://www.ti.com/general/docs/lit/getliterature.tsp?genericPartNumber=BQ2002G&fileType=pdf
footprint D8_N (SOIC, 8-Leads, Body 4.9x3.9mm, Pitch 1.27mm, IPC Medium Density)
footprint D8_L (SOIC, 8-Leads, Body 4.9x3.9mm, Pitch 1.27mm, IPC High Density)
footprint D8_M (SOIC, 8-Leads, Body 4.9x3.9mm, Pitch 1.27mm, IPC Low Density)
pins: 1 TM (in) "Timer mode input. A three-level input that controls the settings for the fast charge safety timer, voltage termination mode, top-off, pulse-trickle, and voltage hold-off time.", 2 ~{LED} (hiz) "Charging output status. Open-drain output that indicates the charging status.", 3 BAT (in) "Battery input voltage. The battery voltage sense input. The input to this pin is created by a high-impedance resistor divider network connected between the positive and negative terminals of the battery.", 4 VSS (power) "System ground.", 5 TS (in) "Temperature sense input. Input for an external battery temperature monitoring thermistor.", 6 VCC (power) "Supply voltage input. 5.0V +/-20%power input.", 7 INH (in) "Charge inhibit input. When high, INH suspends the fast charge in progress. When returned low, the IC resumes operation at the point where initially suspended.", 8 CC (hiz) "Charge control output. An open-drain output used to control the charging current to the battery. CC switching to high impedance (Z) enables charging current to flow, and low to inhibit charging current. CC is modulated to (See Datasheet)"

## BQ2002PN
designator U?
NiCd / NiMH Charge Controller with Negative dV and Peak Voltage Detection Termination, 4 V, 0 to 70 degC, 8-pin PDIP (P), Pb-Free (RoHS); PartNumber: BQ2002PN; Manufacturer: Texas Instruments; Lead Acid: N; NiCd: Y; SubFamily: Battery Charge Management; Vin(Min)(V): 4; DatasheetVersion: SLUS131; PackageVersion: revE, Apr-2010; PackageReference: P8; PackageDescription: 8-Pin Plastic Dual-In-Line Package, Row Spacing 7.62 mm, Pitch 2.54 mm; Supplier 1: Digi-Key; Supplier Part Number 1: 296-9326-5-ND; Supplier Part Number 3: 24C2184; Eco-Plan: Pb-Free (RoHS); Li-Ion: N; Li-Polymer: N; NiMH: Y; Over Voltage Protection: N; Mounting Technology: Through Hole; Code_JEDEC: MS-001-BA; ComponentLink1Description: Datasheet; ComponentLink1URL: http://www.ti.com/general/docs/lit/getliterature.tsp?genericPartNumber=BQ2002&fileType=pdf
footprint P8 (DIP, 8-Leads, Row Spacing 7.62mm, Pitch 2.54mm, Body 9.6x6.4mm)
pins: 1 TM (in) "Timer mode input. A three-level input that controls the settings for the fast charge safety timer, voltage termination mode, top-off, pulse-trickle, and voltage hold-off time.", 2 ~{LED} (hiz) "Charging output status. Open-drain output that indicates the charging status.", 3 BAT (in) "Battery input voltage. The battery voltage sense input. The input to this pin is created by a high-impedance resistor divider network connected between the positive and negative terminals of the battery.", 4 VSS (power) "System ground.", 5 TS (in) "Temperature sense input. Input for an external battery temperature monitoring thermistor.", 6 VCC (power) "Supply voltage input. 5.0V +/-20%power input.", 7 INH (in) "Charge inhibit input. When high, INH suspends the fast charge in progress. When returned low, the IC resumes operation at the point where initially suspended.", 8 CC (hiz) "Charge control output. An open-drain output used to control the charging current to the battery. CC switching to high impedance (Z) enables charging current to flow, and low to inhibit charging current. CC is modulated to (See Datasheet)"

## BQ2002PNE4
designator U?
NiCd / NiMH Charge Controller with Negative dV and Peak Voltage Detection Termination, 4 V, 0 to 70 degC, 8-pin PDIP (P), Pb-Free (RoHS); PartNumber: BQ2002PNE4; Manufacturer: Texas Instruments; Lead Acid: N; NiCd: Y; SubFamily: Battery Charge Management; Vin(Min)(V): 4; DatasheetVersion: SLUS131; PackageVersion: revE, Apr-2010; PackageReference: P8; PackageDescription: 8-Pin Plastic Dual-In-Line Package, Row Spacing 7.62 mm, Pitch 2.54 mm; Supplier 1: Digi-Key; Supplier Part Number 1: BQ2002PNE4-ND; Supplier Part Number 3: 03P2078; Eco-Plan: Pb-Free (RoHS); Li-Ion: N; Li-Polymer: N; NiMH: Y; Over Voltage Protection: N; Mounting Technology: Through Hole; Code_JEDEC: MS-001-BA; ComponentLink1Description: Datasheet; ComponentLink1URL: http://www.ti.com/general/docs/lit/getliterature.tsp?genericPartNumber=BQ2002&fileType=pdf
footprint P8 (DIP, 8-Leads, Row Spacing 7.62mm, Pitch 2.54mm, Body 9.6x6.4mm)
pins: 1 TM (in) "Timer mode input. A three-level input that controls the settings for the fast charge safety timer, voltage termination mode, top-off, pulse-trickle, and voltage hold-off time.", 2 ~{LED} (hiz) "Charging output status. Open-drain output that indicates the charging status.", 3 BAT (in) "Battery input voltage. The battery voltage sense input. The input to this pin is created by a high-impedance resistor divider network connected between the positive and negative terminals of the battery.", 4 VSS (power) "System ground.", 5 TS (in) "Temperature sense input. Input for an external battery temperature monitoring thermistor.", 6 VCC (power) "Supply voltage input. 5.0V +/-20%power input.", 7 INH (in) "Charge inhibit input. When high, INH suspends the fast charge in progress. When returned low, the IC resumes operation at the point where initially suspended.", 8 CC (hiz) "Charge control output. An open-drain output used to control the charging current to the battery. CC switching to high impedance (Z) enables charging current to flow, and low to inhibit charging current. CC is modulated to (See Datasheet)"

## BQ2002SN
designator U?
NiCd / NiMH Charge Controller with Negative dV and Peak Voltage Detection Termination, 4 V, 0 to 70 degC, 8-pin SOIC (D), Green (RoHS & no Sb/Br); PartNumber: BQ2002SN; Manufacturer: Texas Instruments; Lead Acid: N; NiCd: Y; SubFamily: Battery Charge Management; Vin(Min)(V): 4; DatasheetVersion: SLUS131; PackageVersion: revM, Jun-2011; PackageReference: D8; PackageDescription: 8-Pin Plastic Small Outline Integrated Circuit, 4.9 x 3.9 mm, Pitch 1.27 mm Pitch; Supplier 1: Digi-Key; Supplier Part Number 1: 296-9327-5-ND; Supplier Part Number 3: 74C7524; Eco-Plan: Green (RoHS & no Sb/Br); Li-Ion: N; Li-Polymer: N; NiMH: Y; Over Voltage Protection: N; Mounting Technology: Surface Mount; Code_JEDEC: MS-012AA; ComponentLink1Description: Datasheet; ComponentLink1URL: http://www.ti.com/general/docs/lit/getliterature.tsp?genericPartNumber=BQ2002&fileType=pdf
footprint D8_N (SOIC, 8-Leads, Body 4.9x3.9mm, Pitch 1.27mm, IPC Medium Density)
footprint D8_L (SOIC, 8-Leads, Body 4.9x3.9mm, Pitch 1.27mm, IPC High Density)
footprint D8_M (SOIC, 8-Leads, Body 4.9x3.9mm, Pitch 1.27mm, IPC Low Density)
pins: 1 TM (in) "Timer mode input. A three-level input that controls the settings for the fast charge safety timer, voltage termination mode, top-off, pulse-trickle, and voltage hold-off time.", 2 ~{LED} (hiz) "Charging output status. Open-drain output that indicates the charging status.", 3 BAT (in) "Battery input voltage. The battery voltage sense input. The input to this pin is created by a high-impedance resistor divider network connected between the positive and negative terminals of the battery.", 4 VSS (power) "System ground.", 5 TS (in) "Temperature sense input. Input for an external battery temperature monitoring thermistor.", 6 VCC (power) "Supply voltage input. 5.0V +/- 20%power input.", 7 INH (in) "Charge inhibit input. When high, INH suspends the fast charge in progress. When returned low, the IC resumes operation at the point where initially suspended.", 8 CC (hiz) "Charge control output. An open-drain output used to control the charging current to the battery. CC switching to high impedance (Z) enables charging current to flow, and low to inhibit charging current. CC is modulated to (See Datasheet)"

## BQ2002SNG4
designator U?
NiCd / NiMH Charge Controller with Negative dV and Peak Voltage Detection Termination, 4 V, 0 to 70 degC, 8-pin SOIC (D), Green (RoHS & no Sb/Br); PartNumber: BQ2002SNG4; Manufacturer: Texas Instruments; Lead Acid: N; NiCd: Y; SubFamily: Battery Charge Management; Vin(Min)(V): 4; DatasheetVersion: SLUS131; PackageVersion: revM, Jun-2011; PackageReference: D8; PackageDescription: 8-Pin Plastic Small Outline Integrated Circuit, 4.9 x 3.9 mm, Pitch 1.27 mm Pitch; Supplier 1: Digi-Key; Supplier Part Number 1: BQ2002SNG4-ND; Supplier Part Number 3: 53K9209; Eco-Plan: Green (RoHS & no Sb/Br); Li-Ion: N; Li-Polymer: N; NiMH: Y; Over Voltage Protection: N; Mounting Technology: Surface Mount; Code_JEDEC: MS-012AA; ComponentLink1Description: Datasheet; ComponentLink1URL: http://www.ti.com/general/docs/lit/getliterature.tsp?genericPartNumber=BQ2002&fileType=pdf
footprint D8_N (SOIC, 8-Leads, Body 4.9x3.9mm, Pitch 1.27mm, IPC Medium Density)
footprint D8_L (SOIC, 8-Leads, Body 4.9x3.9mm, Pitch 1.27mm, IPC High Density)
footprint D8_M (SOIC, 8-Leads, Body 4.9x3.9mm, Pitch 1.27mm, IPC Low Density)
pins: 1 TM (in) "Timer mode input. A three-level input that controls the settings for the fast charge safety timer, voltage termination mode, top-off, pulse-trickle, and voltage hold-off time.", 2 ~{LED} (hiz) "Charging output status. Open-drain output that indicates the charging status.", 3 BAT (in) "Battery input voltage. The battery voltage sense input. The input to this pin is created by a high-impedance resistor divider network connected between the positive and negative terminals of the battery.", 4 VSS (power) "System ground.", 5 TS (in) "Temperature sense input. Input for an external battery temperature monitoring thermistor.", 6 VCC (power) "Supply voltage input. 5.0V +/- 20%power input.", 7 INH (in) "Charge inhibit input. When high, INH suspends the fast charge in progress. When returned low, the IC resumes operation at the point where initially suspended.", 8 CC (hiz) "Charge control output. An open-drain output used to control the charging current to the battery. CC switching to high impedance (Z) enables charging current to flow, and low to inhibit charging current. CC is modulated to (See Datasheet)"

## BQ2002SNTR
designator U?
NiCd / NiMH Charge Controller with Negative dV and Peak Voltage Detection Termination, 4 V, 0 to 70 degC, 8-pin SOIC (D), Green (RoHS & no Sb/Br); PartNumber: BQ2002SNTR; Manufacturer: Texas Instruments; Lead Acid: N; NiCd: Y; SubFamily: Battery Charge Management; Vin(Min)(V): 4; DatasheetVersion: SLUS131; PackageVersion: revM, Jun-2011; PackageReference: D8; PackageDescription: 8-Pin Plastic Small Outline Integrated Circuit, 4.9 x 3.9 mm, Pitch 1.27 mm Pitch; Supplier 1: Digi-Key; Supplier Part Number 1: BQ2002SNTR-ND; Supplier Part Number 3: 595-BQ2002SNTR; Eco-Plan: Green (RoHS & no Sb/Br); Li-Ion: N; Li-Polymer: N; NiMH: Y; Over Voltage Protection: N; Mounting Technology: Surface Mount; Code_JEDEC: MS-012AA; ComponentLink1Description: Datasheet; ComponentLink1URL: http://www.ti.com/general/docs/lit/getliterature.tsp?genericPartNumber=BQ2002&fileType=pdf
footprint D8_N (SOIC, 8-Leads, Body 4.9x3.9mm, Pitch 1.27mm, IPC Medium Density)
footprint D8_L (SOIC, 8-Leads, Body 4.9x3.9mm, Pitch 1.27mm, IPC High Density)
footprint D8_M (SOIC, 8-Leads, Body 4.9x3.9mm, Pitch 1.27mm, IPC Low Density)
pins: 1 TM (in) "Timer mode input. A three-level input that controls the settings for the fast charge safety timer, voltage termination mode, top-off, pulse-trickle, and voltage hold-off time.", 2 ~{LED} (hiz) "Charging output status. Open-drain output that indicates the charging status.", 3 BAT (in) "Battery input voltage. The battery voltage sense input. The input to this pin is created by a high-impedance resistor divider network connected between the positive and negative terminals of the battery.", 4 VSS (power) "System ground.", 5 TS (in) "Temperature sense input. Input for an external battery temperature monitoring thermistor.", 6 VCC (power) "Supply voltage input. 5.0V +/- 20%power input.", 7 INH (in) "Charge inhibit input. When high, INH suspends the fast charge in progress. When returned low, the IC resumes operation at the point where initially suspended.", 8 CC (hiz) "Charge control output. An open-drain output used to control the charging current to the battery. CC switching to high impedance (Z) enables charging current to flow, and low to inhibit charging current. CC is modulated to (See Datasheet)"

## BQ2002SNTRG4
designator U?
NiCd / NiMH Charge Controller with Negative dV and Peak Voltage Detection Termination, 4 V, 0 to 70 degC, 8-pin SOIC (D), Green (RoHS & no Sb/Br); PartNumber: BQ2002SNTRG4; Manufacturer: Texas Instruments; Lead Acid: N; NiCd: Y; SubFamily: Battery Charge Management; Vin(Min)(V): 4; DatasheetVersion: SLUS131; PackageVersion: revM, Jun-2011; PackageReference: D8; PackageDescription: 8-Pin Plastic Small Outline Integrated Circuit, 4.9 x 3.9 mm, Pitch 1.27 mm Pitch; Supplier 1: Digi-Key; Supplier Part Number 1: BQ2002SNTRG4-ND; Supplier Part Number 3: 595-BQ2002SNTRG4; Eco-Plan: Green (RoHS & no Sb/Br); Li-Ion: N; Li-Polymer: N; NiMH: Y; Over Voltage Protection: N; Mounting Technology: Surface Mount; Code_JEDEC: MS-012AA; ComponentLink1Description: Datasheet; ComponentLink1URL: http://www.ti.com/general/docs/lit/getliterature.tsp?genericPartNumber=BQ2002&fileType=pdf
footprint D8_N (SOIC, 8-Leads, Body 4.9x3.9mm, Pitch 1.27mm, IPC Medium Density)
footprint D8_L (SOIC, 8-Leads, Body 4.9x3.9mm, Pitch 1.27mm, IPC High Density)
footprint D8_M (SOIC, 8-Leads, Body 4.9x3.9mm, Pitch 1.27mm, IPC Low Density)
pins: 1 TM (in) "Timer mode input. A three-level input that controls the settings for the fast charge safety timer, voltage termination mode, top-off, pulse-trickle, and voltage hold-off time.", 2 ~{LED} (hiz) "Charging output status. Open-drain output that indicates the charging status.", 3 BAT (in) "Battery input voltage. The battery voltage sense input. The input to this pin is created by a high-impedance resistor divider network connected between the positive and negative terminals of the battery.", 4 VSS (power) "System ground.", 5 TS (in) "Temperature sense input. Input for an external battery temperature monitoring thermistor.", 6 VCC (power) "Supply voltage input. 5.0V +/- 20%power input.", 7 INH (in) "Charge inhibit input. When high, INH suspends the fast charge in progress. When returned low, the IC resumes operation at the point where initially suspended.", 8 CC (hiz) "Charge control output. An open-drain output used to control the charging current to the battery. CC switching to high impedance (Z) enables charging current to flow, and low to inhibit charging current. CC is modulated to (See Datasheet)"

## BQ2002TPN
designator U?
NiCd / NiMH Charge Controller with dT/ dt Termination, 4 V, 0 to 70 degC, 8-pin PDIP (P), Pb-Free (RoHS); PartNumber: BQ2002TPN; Manufacturer: Texas Instruments; Lead Acid: N; NiCd: Y; SubFamily: Battery Charge Management; Vin(Min)(V): 4; DatasheetVersion: SLUS133; PackageVersion: revE, Apr-2010; PackageReference: P8; PackageDescription: 8-Pin Plastic Dual-In-Line Package, Row Spacing 7.62 mm, Pitch 2.54 mm; Supplier 1: Digi-Key; Supplier Part Number 1: 296-9328-5-ND; Supplier Part Number 3: 595-BQ2002TPN; Eco-Plan: Pb-Free (RoHS); Li-Ion: N; Li-Polymer: N; NiMH: Y; Over Voltage Protection: N; Mounting Technology: Through Hole; Code_JEDEC: MS-001-BA; ComponentLink1Description: Datasheet; ComponentLink1URL: http://www.ti.com/general/docs/lit/getliterature.tsp?genericPartNumber=BQ2002T&fileType=pdf
footprint P8 (DIP, 8-Leads, Row Spacing 7.62mm, Pitch 2.54mm, Body 9.6x6.4mm)
pins: 1 TM (in) "Timer mode input. A three-level input that controls the settings for the fast charge safety timer, voltage termination mode, top-off, pulse-trickle, and voltage hold-off time.", 2 ~{LED} (hiz) "Charging output status. Open-drain output that indicates the charging status.", 3 BAT (in) "Battery input voltage. The battery voltage sense input. The input to this pin is created by a high-impedance resistor divider network connected between the positive and negative terminals of the battery.", 4 VSS (power) "System ground.", 5 TS (in) "Temperature sense input. Input for an external battery temperature monitoring thermistor.", 6 VCC (power) "Supply voltage input. 5.0V+/-20% power input.", 7 INH (in) "Charge inhibit input. When high, INH suspends the fast charge in progress. When returned low, the IC resumes operation at the point where initially suspended.", 8 CC (hiz) "Charge control output. An open-drain output used to control the charging current to the battery. CC switching to high impedance (Z) enables charging current to flow, and low to inhibit charging current. CC is modulated to (See Datasheet)"